# Altium footprint library LYDZ.PcbLib: 231 footprints (part 4 of 15)
Each footprint in its own frame and in the unit in brackets; x right, y up, seen from the top. Pads: shape width x height; smd on the part's side, far side on the other; paste and mask are expansions set on the pad; w line width, h text height; cw(c..) or ccw(c..) is an arc to the next point about the centre after c.
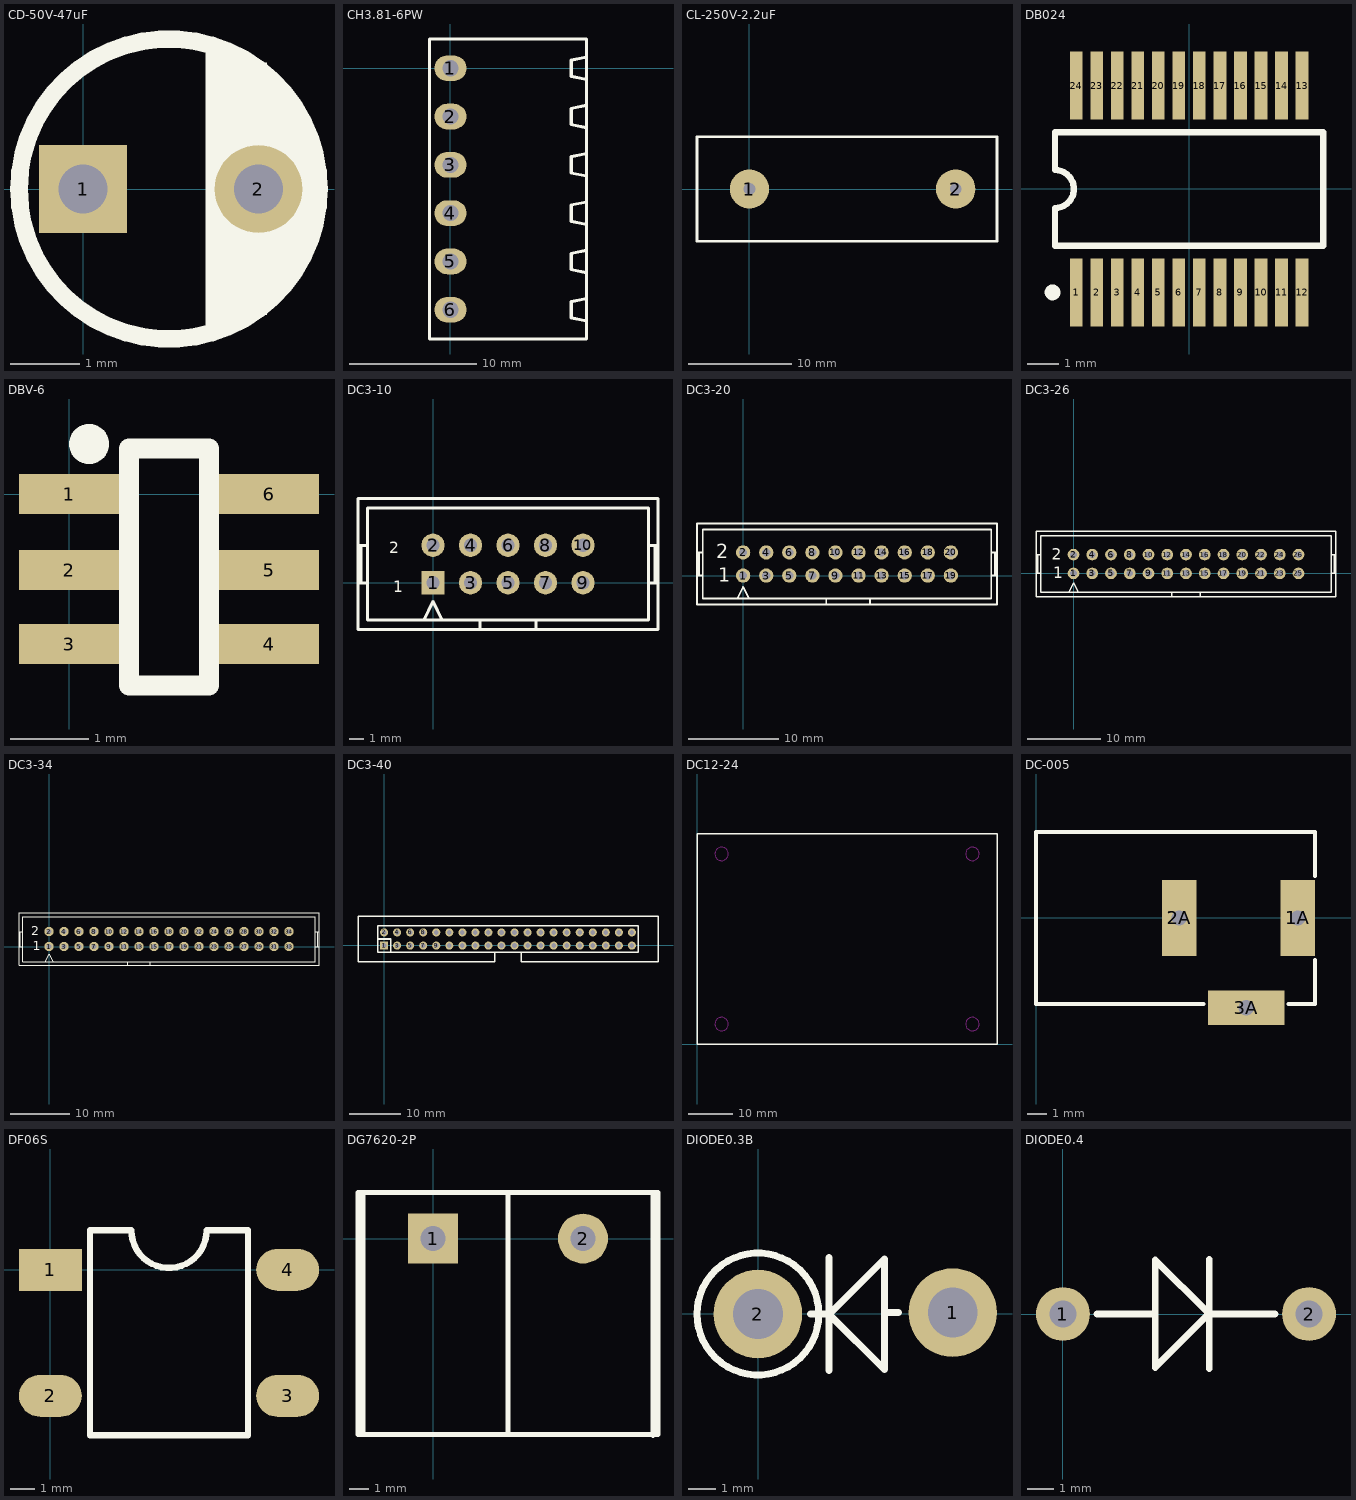
[diagram p3: the footprints below, top view; thin cyan lines are the x and y axes]

## CD-50V-47uF [mil]
pads (2):
  rect 50x50 hole 28: 1(0,0)
  round 50 hole 28: 2(100,0)
Top Overlay:
  circle w10: c49,0 r85.47
  rectangle: 69.94,-77.91 87.94,80.09
  rectangle: 118.94,-36.91 126.94,-13.91
  rectangle: 118.94,-28.91 129.94,38.09
  rectangle: 109.94,-51.91 122.94,50.09
  rectangle: 100.94,-61.91 112.94,59.09
  rectangle: 81.94,-71.91 104.94,72.09

## CH3.81-6PW [mil]
pads (6):
  oval 100x80 hole 50: 1(0,0) 2(0,-150) 3(0,-300) 4(0,-450) 5(0,-600) 6(0,-750)
Top Overlay:
  lines w10: 422.44,-840.75 -65,-840.75 -65,90.75 422.44,90.75 422.44,-840 ; 422.44,-785 375,-775 375,-725 422.44,-715 ; 422.44,-635 375,-625 375,-575 422.44,-565 ; 422.44,-485 375,-475 375,-425 422.44,-415 ; 422.44,-335 375,-325 375,-275 422.44,-265 ; 422.44,-185 375,-175 375,-125 422.44,-115 ; 422.44,-35 375,-25 375,25 422.44,35

## CL-250V-2.2uF [mil]
pads (2):
  round 150 hole 45: 1(0,0) 2(787.4,0)
Top Overlay:
  lines w10: -200,-200 -200,200 0,200 945,200 945,-200 0,-200 -200,-200

## DB024 [mm]
height 2
pads (24):
  rect 0.4x2.15 smd: 1(-3.575,-3.275) 2(-2.925,-3.275) 3(-2.275,-3.275) 4(-1.625,-3.275) 5(-0.975,-3.275) 6(-0.325,-3.275) 7(0.325,-3.275) 8(0.975,-3.275) 9(1.625,-3.275) 10(2.275,-3.275) 11(2.925,-3.275) 12(3.575,-3.275) 13(3.575,3.275) 14(2.925,3.275) 15(2.275,3.275) 16(1.625,3.275) 17(0.975,3.275) 18(0.325,3.275) 19(-0.325,3.275) 20(-0.975,3.275) 21(-1.625,3.275) 22(-2.275,3.275) 23(-2.925,3.275) 24(-3.575,3.275)
Top Overlay:
  circle w0.25: c-4.325,-3.275 r0.125
  lines w0.2: -4.25,-1.8 -4.25,-0.6 ccw(c-4.25,0) -4.25,0.6 -4.25,1.8 4.25,1.8 4.25,-1.8 -4.25,-1.8

## DBV-6 [mil]
height 89.37
pads (6):
  rect 50x20 smd: 1(0,0) 2(0,-38) 3(0,-75) 4(100,-75) 5(100,-38) 6(100,0)
Top Overlay:
  circle w10: c10,25 r5
  lines w10: 30,-95.67 30,22.64 70,22.64 70,-95.67 30,-95.67

## DC3-10 [mil]
pads (10):
  rect 62x62 hole 35: 1(0,0)
  round 62 hole 35: 2(0,100) 3(100,0) 4(100,100) 5(200,0) 6(200,100) 7(300,0) 8(300,100) 9(400,0) 10(400,100)
Top Overlay:
  lines w8: -200,0 -175,0 ; -200,100 -175,100 ; -191.67,0 -191.67,100 ; -25,-100 0,-50 25,-100 ; 125,-125 125,-100 ; 275,-125 275,-100 ; 575,0 600,0 ; 575,100 600,100 ; 591.67,0 591.67,100 ; 125,-100 275,-100 ; 125,-100 -175,-100 -175,200 575,200 575,-100 275,-100 ; -200,-125 600,-125 600,225 -200,225 -200,-125
  text "2" at -117,79 h30
  text "1" at -106,-26 h30

## DC3-20 [mil]
pads (20):
  round 62 hole 35: 1(0,0) 2(0,100) 3(100,0) 4(100,100) 5(200,0) 6(200,100) 7(300,0) 8(300,100) 9(400,0) 10(400,100) 11(500,0) 12(500,100) 13(600,0) 14(600,100) 15(700,0) 16(700,100) 17(800,0) 18(800,100) 19(900,0) 20(900,100)
Top Overlay:
  lines w8: -200,0 -175,0 ; -200,100 -175,100 ; -191.67,0 -191.67,100 ; -25,-100 0,-50 25,-100 ; 360,-125 360,-100 ; 550,-125 550,-100 ; 1075,0 1100,0 ; 1075,100 1100,100 ; 1091.67,0 1091.67,100 ; -200,-125 -200,225 1100,225 1100,-125 -200,-125 ; -175,-100 525,-100 675,-100 1075,-100 1075,200 -175,200 -175,-100
  text "2" at -117,74 h60
  text "1" at -107,-26 h60

## DC3-26 [mil]
pads (26):
  round 62 hole 35: 1(0,0) 2(0,100) 3(100,0) 4(100,100) 5(200,0) 6(200,100) 7(300,0) 8(300,100) 9(400,0) 10(400,100) 11(500,0) 12(500,100) 13(600,0) 14(600,100) 15(700,0) 16(700,100) 17(800,0) 18(800,100) 19(900,0) 20(900,100) 21(1000,0) 22(1000,100) 23(1100,0) 24(1100,100) 25(1200,0) 26(1200,100)
Top Overlay:
  lines w8: -200,0 -175,0 ; -200,100 -175,100 ; -191.67,0 -191.67,100 ; -25,-100 0,-50 25,-100 ; 525,-125 525,-100 ; 675,-125 675,-100 ; 1375,0 1400,0 ; 1375,100 1400,100 ; 1391.67,0 1391.67,100 ; 525,-100 -175,-100 -175,200 1375,200 1375,-100 675,-100 ; 525,-100 675,-100 ; -200,-125 -200,225 1400,225 1400,-125 -200,-125
  text "1" at -107,-26 h60
  text "2" at -117,74 h60

## DC3-34 [mil]
pads (34):
  round 62 hole 35: 1(0,0) 2(0,100) 3(100,0) 4(100,100) 5(200,0) 6(200,100) 7(300,0) 8(300,100) 9(400,0) 10(400,100) 11(500,0) 12(500,100) 13(600,0) 14(600,100) 15(700,0) 16(700,100) 17(800,0) 18(800,100) 19(900,0) 20(900,100) 21(1000,0) 22(1000,100) 23(1100,0) 24(1100,100) 25(1200,0) 26(1200,100) 27(1300,0) 28(1300,100) 29(1400,0) 30(1400,100) 31(1500,0) 32(1500,100) 33(1600,0) 34(1600,100)
Top Overlay:
  lines w8: -200,0 -175,0 ; -200,100 -175,100 ; -191.67,0 -191.67,100 ; -25,-100 0,-50 25,-100 ; 525,-125 525,-100 ; 675,-125 675,-100 ; 1775,0 1800,0 ; 1775,100 1800,100 ; 1791.67,0 1791.67,100 ; 525,-100 675,-100 ; 525,-100 -175,-100 -175,200 1775,200 1775,-100 675,-100 ; -200,-125 1800,-125 1800,225 -200,225 -200,-125
  text "2" at -117,74 h60
  text "1" at -107,-26 h60

## DC3-40 [mil]
pads (40):
  rect 62x62 hole 35: 1(-0.6,-0.25)
  round 62 hole 35: 2(-0.6,99.75) 3(99.4,-0.25) 4(99.4,99.75) 5(199.4,-0.25) 6(199.4,99.75) 7(299.4,-0.25) 8(299.4,99.75) 9(399.4,-0.25) 10(399.4,99.75) 11(499.4,-0.25) 12(499.4,99.75) 13(599.4,-0.25) 14(599.4,99.75) 15(699.4,-0.25) 16(699.4,99.75) 17(799.4,-0.25) 18(799.4,99.75) 19(899.4,-0.25) 20(899.4,99.75) 21(999.4,-0.25) 22(999.4,99.75) 23(1099.4,-0.25) 24(1099.4,99.75) 25(1199.4,-0.25) 26(1199.4,99.75) 27(1299.4,-0.25) 28(1299.4,99.75) 29(1399.4,-0.25) 30(1399.4,99.75) 31(1499.4,-0.25) 32(1499.4,99.75) 33(1599.4,-0.25) 34(1599.4,99.75) 35(1699.4,-0.25) 36(1699.4,99.75) 37(1799.4,-0.25) 38(1799.4,99.75) 39(1899.4,-0.25) 40(1899.4,99.75)
Top Overlay:
  lines w10: 849.4,-50.25 849.4,-125.25 -200.6,-125.25 -200.6,224.75 2099.4,224.75 2099.4,-125.25 1049.4,-125.25 1049.4,-50.25 ; 1949.4,-50.25 1949.4,149.75
  lines w12: -50.6,49.75 49.4,49.75 49.4,-50.25 ; 1949.4,-50.25 -50.6,-50.25 -50.6,149.75 1949.4,149.75

## DC12-24 [mil]
Top Overlay:
  lines w12: 0,0 0,1850.39 2637.8,1850.39 2637.8,0 0,0
Keep-Out Layer:
  circle w10: c216.54,177.17 r59.06
  circle w10: c2421.26,177.17 r59.06
  circle w10: c2421.26,1673.23 r59.06
  circle w10: c216.54,1673.23 r59.06

## DC-005 [mm] "DC Power Jack, 2.5mm, KLD Series, PCB Mount"
pads (3):
  rect 1.8x4 hole 0.8 square: 1A(13.7,0) 2A(7.5,0)
  rect 4x1.8 hole 0.8 square: 3A(11,-4.7)
Top Overlay:
  lines w0.2: 8.763,-4.5 0,-4.5 0,4.5 14.6,4.5 14.6,2.2 ; 13.208,-4.5 14.6,-4.5 14.6,-2.2

## DF06S [mm]
pads (4):
  rect 2.54x1.7 smd: 1(0,0)
  oval 2.54x1.7 smd: 2(0,-5.1) 3(9.6,-5.1) 4(9.6,0)
Top Overlay:
  lines w0.254: 1.6,-6.7 1.6,1.6 3.276,1.6 ccw(c4.8,1.6) 6.324,1.6 8,1.6 8,-6.7 1.6,-6.7

## DG7620-2P [mil]
pads (2):
  rect 100x100 hole 50: 1(0,0)
  round 100 hole 50: 2(300,0)
Top Overlay:
  lines w10: -140,-391.73 -140,92.52 ; 150,-391.73 150,92.52 ; 440,-394.25 440,90 ; -150,-391.73 -150,92.52 450,92.52 450,-391.73 -150,-391.73

## DIODE0.3B [mm]
pads (2):
  round 3.2 hole 1.8: 1(7.032,0.046) 2(-0.004,-0.005)
Top Overlay:
  circle w0.254: c-0.004,-0.005 r2.2
  lines w0.254: 1.905,-0.005 2.587,-0.005 4.568,1.977 4.568,-2.011 2.574,-0.017 ; 2.562,-2.037 2.562,2.027 ; 4.568,0.046 5.08,0.046

## DIODE0.4 [mm]
pads (2):
  round 2 hole 1: 1(0,0) 2(9.144,0)
Top Overlay:
  lines w0.254: 1.27,0 3.429,0 ; 5.41,0 3.429,-1.981 3.429,2.007 5.423,0.013 ; 5.436,-2.032 5.436,2.032 ; 5.436,0 7.874,0